# Altium integrated library TI Power Management Step-Down Regulator.IntLib: 531 symbols (part 17 of 32)
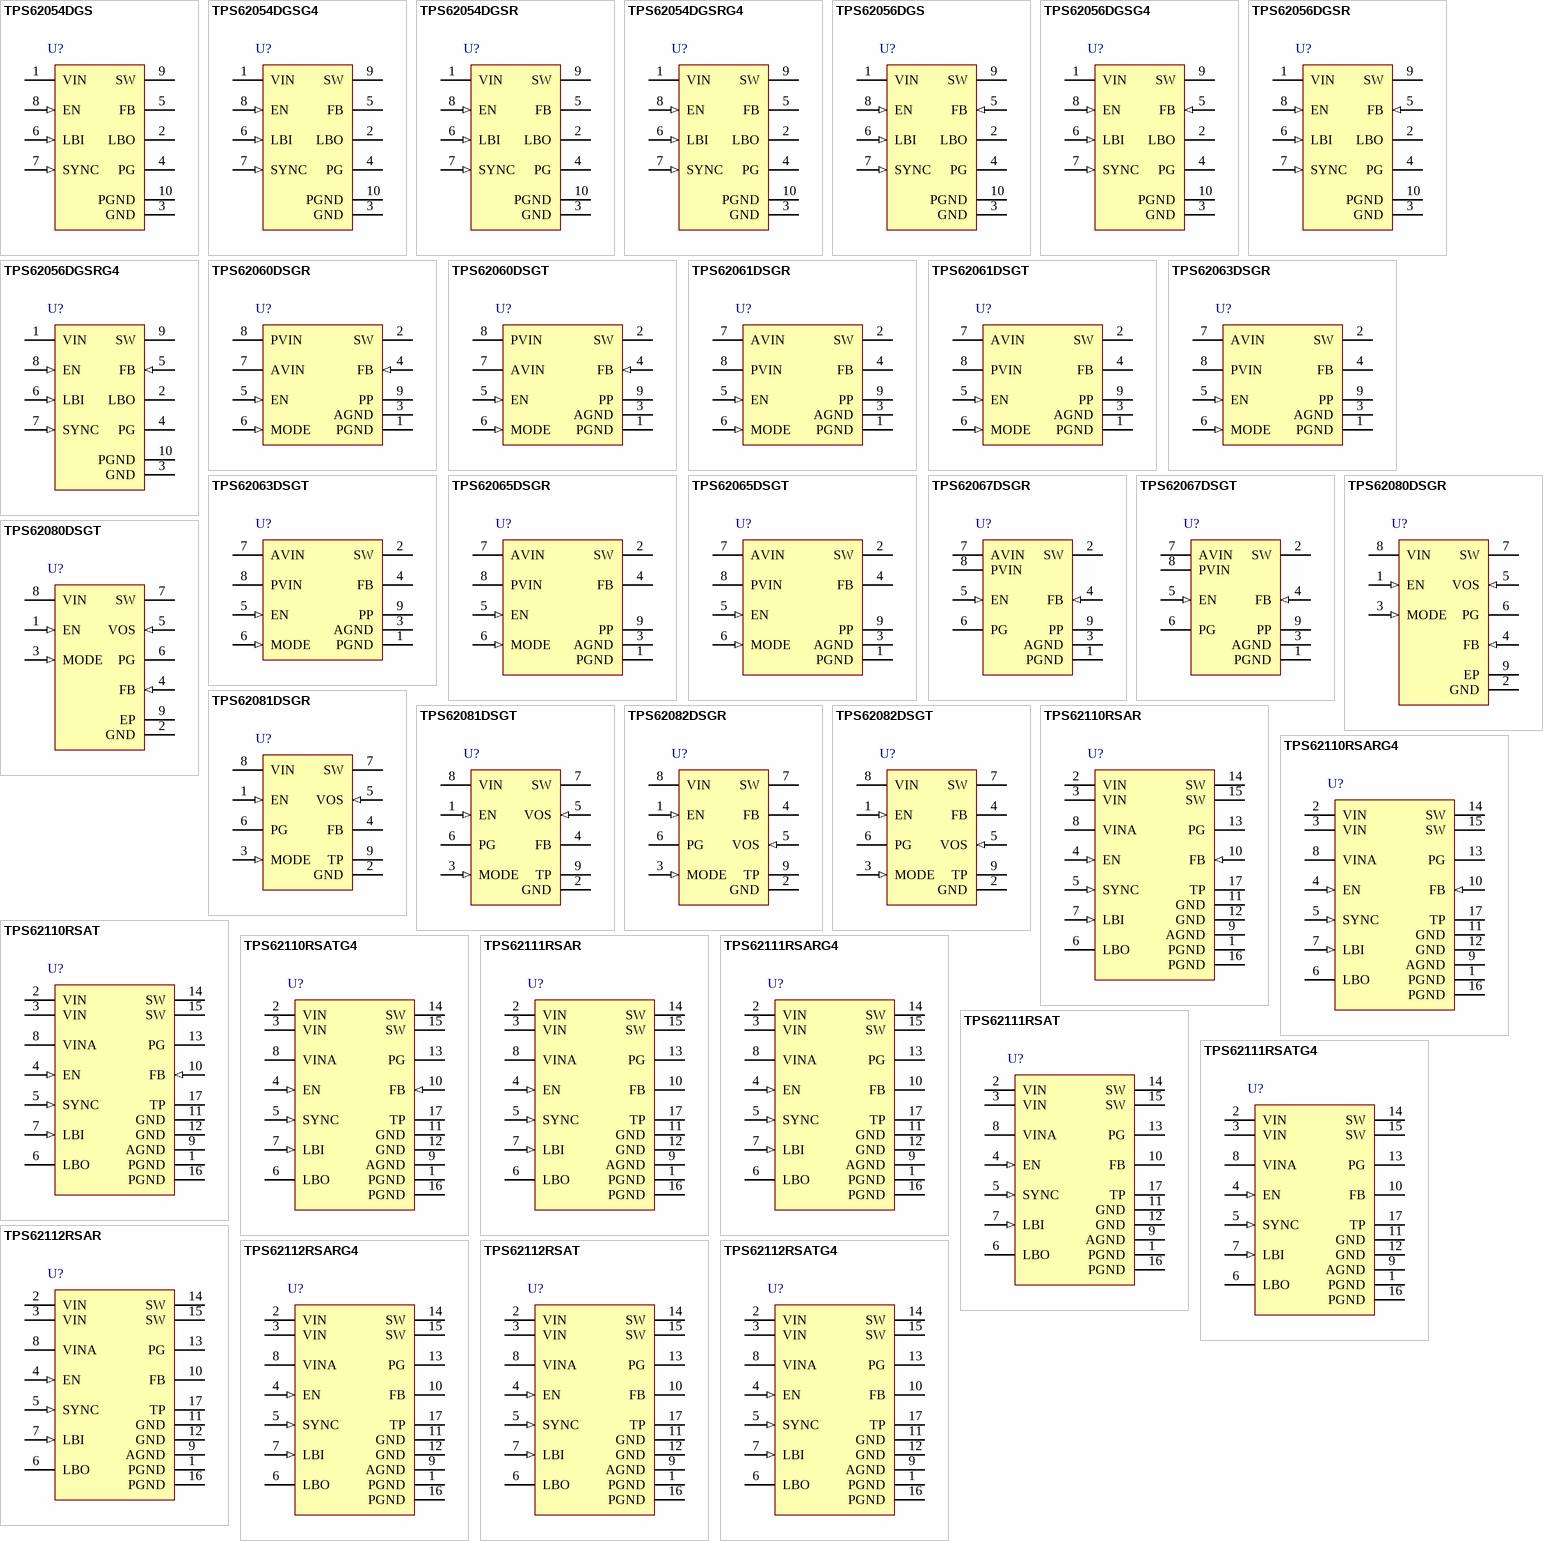
[diagram p34: symbols TPS62054DGS to TPS62112RSATG4]

## TPS62082DSGT
designator U?
Buck Step Down Regulator with 2.3 to 6 V Input and 3.3 V Output, -40 to 85 degC, 8-Pin WSON (DSG), Green (RoHS & no Sb/Br); PartNumber: TPS62082DSGT; Manufacturer: Texas Instruments; Duty Cycle(Max)(%): 100; Iout(Max)(A): 1.2; Iq(Typ)(mA): 0.006; Rating: Catalog; Regulated Outputs(#): 1; SubFamily: Step-Down Regulator; Switch Current Limit(Typ)(A): 2.8; Vin(Max)(V): 6; Vin(Min)(V): 2.3; Vout(Max)(V): 3.3; DatasheetVersion: SLVSAE8B; PackageVersion: revB, Oct-2010; PackageReference: DSG8-1600X900TP; PackageDescription: 8-Pin Plastic Small Outline No-Lead, 2 x 2 x 0.8 mm Body, 0.5 mm Pitch, Exposed Pad; Supplier 1: Digi-Key; Supplier Part Number 1: 296-29647-2-ND; Supplier 2: Digi-Key; Supplier Part Number 2: 296-29647-1-ND; Supplier 3: Digi-Key; Supplier Part Number 3: 296-29647-6-ND; Supplier 4: Farnell; Supplier Part Number 4: 2064227; Supplier 5: Newark; Supplier Part Number 5: 71T7162; Supplier 6: Newark; Supplier Part Number 6: 64T4243; Supplier 7: Mouser; Supplier Part Number 7: 595-TPS62082DSGT; Eco-Plan: Green (RoHS & no Sb/Br); Topology: Buck; Vout(Min)(V): 3.3; Mounting Technology: Surface Mount; Code_JEDEC: MO-229; ComponentLink1Description: Datasheet; ComponentLink1URL: http://www.ti.com/general/docs/lit/getliterature.tsp?genericPartNumber=TPS62082&fileType=pdf; ComponentLink2Description: URL Link1; ComponentLink2URL: Samples URL:http://www.ti.com/product/tps54611#samples
footprint DSG8-1600X900TP (SON, 8-Leads, Body 2x2mm, Pitch 0.5mm, Thermal Pad 1.6x0.9mm, TI Recommended)
pins: 1 EN (in) "Device Enable Logic Input. Logic HIGH enables the device, logic LOW disables the device and turns it into shutdown.", 2 GND (power) "Power and Signal Ground.", 3 MODE (in) "Snooze Mode Enable Logic Input. Logic HIGH enables the Snooze Mode, logic LOW disables the Snooze Mode", 4 FB "Feedback Pin for the internal control loop. Connect this pin to the external feedback divider for the adjustable output version. For the fixed output voltage versions this pin must be left floating or connected to GND.", 5 VOS (in) "Output Voltage Sense Pin for the internal control loop. Must be connected to output.", 6 PG (hiz) "Power Good open drain output. This pin is pulled to low if the output voltage is below regulation limits. Can be left floating if not used", 7 SW (power) "Switch Pin connected to the internal MOSFET switches and inductor terminal. Connect the inductor of the output filter here.", 8 VIN (power) "Power Supply Voltage Input.", 9 TP (power) "Connect it to GND."

## TPS62110RSAR
designator U?
Buck Adjustable Regulator with 3.1 to 17 V Input and 1.2 to 16 V Output, -40 to 85 degC, 16-Pin QFN (RSA), Green (RoHS & no Sb/Br); PartNumber: TPS62110RSAR; Manufacturer: Texas Instruments; Duty Cycle(Max)(%): 100; Iout(Max)(A): 1.5; Iq(Typ)(mA): 0.02; Rating: Catalog; Regulated Outputs(#): 1; SubFamily: Step-Down Regulator; Switch Current Limit(Typ)(A): 2.4; Synchronous Rectification: TRUE; Vin(Max)(V): 17; Vin(Min)(V): 3.1; Vout(Max)(V): 16; Vout(Min)(V): 1.2; DatasheetVersion: SLVS585A; PackageVersion: revD, Jun-2011; PackageReference: RSA16-2700X2700TP; PackageDescription: 16-Pin Plastic Quad Flatpack No-Lead 0.65 mm Pitch; Supplier 1: Digi-Key; Supplier Part Number 1: 296-24839-2-ND; Supplier 2: Digi-Key; Supplier Part Number 2: 296-24839-1-ND; Supplier 3: Digi-Key; Supplier Part Number 3: 296-24839-6-ND; Supplier 4: Newark; Supplier Part Number 4: 52K5943; Supplier 5: Mouser; Supplier Part Number 5: 595-TPS62110RSAR; Eco-Plan: Green (RoHS & no Sb/Br); Topology: Buck; Mounting Technology: Surface Mount; Code_JEDEC: MO-220; ComponentLink1Description: Datasheet; ComponentLink1URL: http://www.ti.com/general/docs/lit/getliterature.tsp?genericPartNumber=TPS62110&fileType=pdf; ComponentLink2Description: URL Link1; ComponentLink2URL: Samples URL:http://www.ti.com/product/tps62110#samples
footprint RSA16-2700X2700TP (QFN, 16-Leads, Body 4x4mm, Pitch 0.65mm, Thermal Pad 2.7x2.7mm, TI Recommended)
pins: 1 PGND (power) "Power ground. Connect all power grounds to this pin.", 2 VIN (power) "Supply voltage input (power stage).", 3 VIN (power) "Supply voltage input (power stage).", 4 EN (in) "Enable. A logic high enables the converter; logic low forces the device into shutdown mode reducing the supply current to less than 2 uA.", 5 SYNC (in) "Input for synchronization to external clock signal. Synchronizes the converter switching frequency to an external clock signal with CMOS level: SYNC = HIGH: Low-noise mode enabled, fixed frequency PWM operation is forced (See Datasheet)", 6 LBO (hiz) "Open-drain, low-battery output. This pin is pulled low if LBI is below its threshold.", 7 LBI (in) "Low-battery input.", 8 VINA (power) "Supply voltage input (support circuits).", 9 AGND (power) "Analog ground, connect to GND and PGND.", 10 FB (in) "Feedback pin for the fixed output voltage option. For the adjustable version, an external resistive divider is connected to this pin. The internal voltage divider is disabled for the adjustable version.", 11 GND (power) "Ground.", 12 GND (power) "Ground.", 13 PG (oc) "Power good comparator output. This is an open-drain output. A pullup resistor should be connected between PG and VOUT. The output goes active high when the output voltage is greater than 98.4% of the nominal value.", 14 SW (power) "Connect the inductor to this pin. This pin is the switch pin and connected to the drain of the internal power MOSFETS.", 15 SW (power) "Connect the inductor to this pin. This pin is the switch pin and connected to the drain of the internal power MOSFETS.", 16 PGND (power) "Power ground. Connect all power grounds to this pin.", 17 TP (power) "Connect to AGND."

## TPS62110RSARG4
designator U?
Buck Adjustable Regulator with 3.1 to 17 V Input and 1.2 to 16 V Output, -40 to 85 degC, 16-Pin QFN (RSA), Green (RoHS & no Sb/Br); PartNumber: TPS62110RSARG4; Manufacturer: Texas Instruments; Duty Cycle(Max)(%): 100; Iout(Max)(A): 1.5; Iq(Typ)(mA): 0.02; Rating: Catalog; Regulated Outputs(#): 1; SubFamily: Step-Down Regulator; Switch Current Limit(Typ)(A): 2.4; Synchronous Rectification: TRUE; Vin(Max)(V): 17; Vin(Min)(V): 3.1; Vout(Max)(V): 16; Vout(Min)(V): 1.2; DatasheetVersion: SLVS585A; PackageVersion: revD, Jun-2011; PackageReference: RSA16-2700X2700TP; PackageDescription: 16-Pin Plastic Quad Flatpack No-Lead 0.65 mm Pitch; Supplier 1: Digi-Key; Supplier Part Number 1: TPS62110RSARG4-ND; Supplier 2: Newark; Supplier Part Number 2: 58K6947; Supplier 3: Mouser; Supplier Part Number 3: 595-TPS62110RSARG4; Eco-Plan: Green (RoHS & no Sb/Br); Topology: Buck; Mounting Technology: Surface Mount; Code_JEDEC: MO-220; ComponentLink1Description: Datasheet; ComponentLink1URL: http://www.ti.com/general/docs/lit/getliterature.tsp?genericPartNumber=TPS62110&fileType=pdf; ComponentLink2Description: URL Link1; ComponentLink2URL: Samples URL:http://www.ti.com/product/tps62110#samples
footprint RSA16-2700X2700TP (QFN, 16-Leads, Body 4x4mm, Pitch 0.65mm, Thermal Pad 2.7x2.7mm, TI Recommended)
pins: 1 PGND (power) "Power ground. Connect all power grounds to this pin.", 2 VIN (power) "Supply voltage input (power stage).", 3 VIN (power) "Supply voltage input (power stage).", 4 EN (in) "Enable. A logic high enables the converter; logic low forces the device into shutdown mode reducing the supply current to less than 2 uA.", 5 SYNC (in) "Input for synchronization to external clock signal. Synchronizes the converter switching frequency to an external clock signal with CMOS level: SYNC = HIGH: Low-noise mode enabled, fixed frequency PWM operation is forced (See Datasheet)", 6 LBO (hiz) "Open-drain, low-battery output. This pin is pulled low if LBI is below its threshold.", 7 LBI (in) "Low-battery input.", 8 VINA (power) "Supply voltage input (support circuits).", 9 AGND (power) "Analog ground, connect to GND and PGND.", 10 FB (in) "Feedback pin for the fixed output voltage option. For the adjustable version, an external resistive divider is connected to this pin. The internal voltage divider is disabled for the adjustable version.", 11 GND (power) "Ground.", 12 GND (power) "Ground.", 13 PG (oc) "Power good comparator output. This is an open-drain output. A pullup resistor should be connected between PG and VOUT. The output goes active high when the output voltage is greater than 98.4% of the nominal value.", 14 SW (power) "Connect the inductor to this pin. This pin is the switch pin and connected to the drain of the internal power MOSFETS.", 15 SW (power) "Connect the inductor to this pin. This pin is the switch pin and connected to the drain of the internal power MOSFETS.", 16 PGND (power) "Power ground. Connect all power grounds to this pin.", 17 TP (power) "Connect to AGND."

## TPS62110RSAT
designator U?
Buck Adjustable Regulator with 3.1 to 17 V Input and 1.2 to 16 V Output, -40 to 85 degC, 16-Pin QFN (RSA), Green (RoHS & no Sb/Br); PartNumber: TPS62110RSAT; Manufacturer: Texas Instruments; Duty Cycle(Max)(%): 100; Iout(Max)(A): 1.5; Iq(Typ)(mA): 0.02; Rating: Catalog; Regulated Outputs(#): 1; SubFamily: Step-Down Regulator; Switch Current Limit(Typ)(A): 2.4; Synchronous Rectification: TRUE; Vin(Max)(V): 17; Vin(Min)(V): 3.1; Vout(Max)(V): 16; Vout(Min)(V): 1.2; DatasheetVersion: SLVS585A; PackageVersion: revD, Jun-2011; PackageReference: RSA16-2700X2700TP; PackageDescription: 16-Pin Plastic Quad Flatpack No-Lead 0.65 mm Pitch; Supplier 1: Digi-Key; Supplier Part Number 1: 296-18580-2-ND; Supplier 2: Digi-Key; Supplier Part Number 2: 296-18580-1-ND; Supplier 3: Digi-Key; Supplier Part Number 3: 296-18580-6-ND; Supplier 4: Farnell; Supplier Part Number 4: 1412558; Supplier 5: Newark; Supplier Part Number 5: 52K2744; Supplier 6: Mouser; Supplier Part Number 6: 595-TPS62110RSAT; Eco-Plan: Green (RoHS & no Sb/Br); Topology: Buck; Mounting Technology: Surface Mount; Code_JEDEC: MO-220; ComponentLink1Description: Datasheet; ComponentLink1URL: http://www.ti.com/general/docs/lit/getliterature.tsp?genericPartNumber=TPS62110&fileType=pdf; ComponentLink2Description: URL Link1; ComponentLink2URL: Samples URL:http://www.ti.com/product/tps62110#samples
footprint RSA16-2700X2700TP (QFN, 16-Leads, Body 4x4mm, Pitch 0.65mm, Thermal Pad 2.7x2.7mm, TI Recommended)
pins: 1 PGND (power) "Power ground. Connect all power grounds to this pin.", 2 VIN (power) "Supply voltage input (power stage).", 3 VIN (power) "Supply voltage input (power stage).", 4 EN (in) "Enable. A logic high enables the converter; logic low forces the device into shutdown mode reducing the supply current to less than 2 uA.", 5 SYNC (in) "Input for synchronization to external clock signal. Synchronizes the converter switching frequency to an external clock signal with CMOS level: SYNC = HIGH: Low-noise mode enabled, fixed frequency PWM operation is forced (See Datasheet)", 6 LBO (hiz) "Open-drain, low-battery output. This pin is pulled low if LBI is below its threshold.", 7 LBI (in) "Low-battery input.", 8 VINA (power) "Supply voltage input (support circuits).", 9 AGND (power) "Analog ground, connect to GND and PGND.", 10 FB (in) "Feedback pin for the fixed output voltage option. For the adjustable version, an external resistive divider is connected to this pin. The internal voltage divider is disabled for the adjustable version.", 11 GND (power) "Ground.", 12 GND (power) "Ground.", 13 PG (oc) "Power good comparator output. This is an open-drain output. A pullup resistor should be connected between PG and VOUT. The output goes active high when the output voltage is greater than 98.4% of the nominal value.", 14 SW (power) "Connect the inductor to this pin. This pin is the switch pin and connected to the drain of the internal power MOSFETS.", 15 SW (power) "Connect the inductor to this pin. This pin is the switch pin and connected to the drain of the internal power MOSFETS.", 16 PGND (power) "Power ground. Connect all power grounds to this pin.", 17 TP (power) "Connect to AGND."

## TPS62110RSATG4
designator U?
Buck Adjustable Regulator with 3.1 to 17 V Input and 1.2 to 16 V Output, -40 to 85 degC, 16-Pin QFN (RSA), Green (RoHS & no Sb/Br); PartNumber: TPS62110RSATG4; Manufacturer: Texas Instruments; Duty Cycle(Max)(%): 100; Iout(Max)(A): 1.5; Iq(Typ)(mA): 0.02; Rating: Catalog; Regulated Outputs(#): 1; SubFamily: Step-Down Regulator; Switch Current Limit(Typ)(A): 2.4; Synchronous Rectification: TRUE; Vin(Max)(V): 17; Vin(Min)(V): 3.1; Vout(Max)(V): 16; Vout(Min)(V): 1.2; DatasheetVersion: SLVS585A; PackageVersion: revD, Jun-2011; PackageReference: RSA16-2700X2700TP; PackageDescription: 16-Pin Plastic Quad Flatpack No-Lead 0.65 mm Pitch; Supplier 1: Digi-Key; Supplier Part Number 1: TPS62110RSATG4-ND; Supplier 2: Farnell; Supplier Part Number 2: 1180173; Supplier 3: Farnell; Supplier Part Number 3: 1180173RL; Supplier 4: Newark; Supplier Part Number 4: 26M4288; Supplier 5: Newark; Supplier Part Number 5: 61K1897; Supplier 6: Mouser; Supplier Part Number 6: 595-TPS62110RSATG4; Eco-Plan: Green (RoHS & no Sb/Br); Topology: Buck; Mounting Technology: Surface Mount; Code_JEDEC: MO-220; ComponentLink1Description: Datasheet; ComponentLink1URL: http://www.ti.com/general/docs/lit/getliterature.tsp?genericPartNumber=TPS62110&fileType=pdf; ComponentLink2Description: URL Link1; ComponentLink2URL: Samples URL:http://www.ti.com/product/tps54611#samples
footprint RSA16-2700X2700TP (QFN, 16-Leads, Body 4x4mm, Pitch 0.65mm, Thermal Pad 2.7x2.7mm, TI Recommended)
pins: 1 PGND (power) "Power ground. Connect all power grounds to this pin.", 2 VIN (power) "Supply voltage input (power stage).", 3 VIN (power) "Supply voltage input (power stage).", 4 EN (in) "Enable. A logic high enables the converter; logic low forces the device into shutdown mode reducing the supply current to less than 2 uA.", 5 SYNC (in) "Input for synchronization to external clock signal. Synchronizes the converter switching frequency to an external clock signal with CMOS level: SYNC = HIGH: Low-noise mode enabled, fixed frequency PWM operation is forced (See Datasheet)", 6 LBO (hiz) "Open-drain, low-battery output. This pin is pulled low if LBI is below its threshold.", 7 LBI (in) "Low-battery input.", 8 VINA (power) "Supply voltage input (support circuits).", 9 AGND (power) "Analog ground, connect to GND and PGND.", 10 FB (in) "Feedback pin for the fixed output voltage option. For the adjustable version, an external resistive divider is connected to this pin. The internal voltage divider is disabled for the adjustable version.", 11 GND (power) "Ground.", 12 GND (power) "Ground.", 13 PG (oc) "Power good comparator output. This is an open-drain output. A pullup resistor should be connected between PG and VOUT. The output goes active high when the output voltage is greater than 98.4% of the nominal value.", 14 SW (power) "Connect the inductor to this pin. This pin is the switch pin and connected to the drain of the internal power MOSFETS.", 15 SW (power) "Connect the inductor to this pin. This pin is the switch pin and connected to the drain of the internal power MOSFETS.", 16 PGND (power) "Power ground. Connect all power grounds to this pin.", 17 TP (power) "Connect to AGND."

## TPS62111RSAR
designator U?
Buck Step Down Regulator with 3.1 to 17 V Input and 3.3 V Output, -40 to 85 degC, 16-Pin QFN (RSA), Green (RoHS & no Sb/Br); PartNumber: TPS62111RSAR; Manufacturer: Texas Instruments; Duty Cycle(Max)(%): 100; Iout(Max)(A): 1.5; Iq(Typ)(mA): 0.02; Preset Vout(V): 3.3; Rating: Catalog; Regulated Outputs(#): 1; SubFamily: Step-Down Regulator; Switch Current Limit(Typ)(A): 2.4; Synchronous Rectification: TRUE; Vin(Max)(V): 17; Vin(Min)(V): 3.1; DatasheetVersion: SLVS585A; PackageVersion: revD, Jun-2011; PackageReference: RSA16-2700X2700TP; PackageDescription: 16-Pin Plastic Quad Flatpack No-Lead 0.65 mm Pitch; Supplier 1: Digi-Key; Supplier Part Number 1: TPS62111RSAR-ND; Supplier 2: Newark; Supplier Part Number 2: 54K1738; Supplier 3: Mouser; Supplier Part Number 3: 595-TPS62111RSAR; Eco-Plan: Green (RoHS & no Sb/Br); Topology: Buck; Vout(Max)(V): 3.3; Vout(Min)(V): 3.3; Mounting Technology: Surface Mount; Code_JEDEC: MO-220; ComponentLink1Description: Datasheet; ComponentLink1URL: http://www.ti.com/general/docs/lit/getliterature.tsp?genericPartNumber=TPS62111&fileType=pdf; ComponentLink2Description: URL Link1; ComponentLink2URL: Samples URL:http://www.ti.com/product/tps62111#samples
footprint RSA16-2700X2700TP (QFN, 16-Leads, Body 4x4mm, Pitch 0.65mm, Thermal Pad 2.7x2.7mm, TI Recommended)
pins: 1 PGND (power) "Power ground. Connect all power grounds to this pin.", 2 VIN (power) "Supply voltage input (power stage).", 3 VIN (power) "Supply voltage input (power stage).", 4 EN (in) "Enable. A logic high enables the converter; logic low forces the device into shutdown mode reducing the supply current to less than 2 µ A.", 5 SYNC (in) "Input for synchronization to external clock signal. Synchronizes the converter switching frequency to anexternal clock signal with CMOS level: SYNC = HIGH: Low-noise mode enabled, fixed frequency PWM operation is forced. (See Datasheet)", 6 LBO (hiz) "Open-drain, low-battery output. This pin is pulled low if LBI is below its threshold.", 7 LBI (in) "Low-battery input.", 8 VINA (power) "Supply voltage input (support circuits).", 9 AGND (power) "Analog ground, connect to GND and PGND.", 10 FB "Feedback pin for the fixed output voltage option. For the adjustable version, an external resistive divider is connected to this pin. The internal voltage divider is disabled for the adjustable version.", 11 GND (power) "Ground.", 12 GND (power) "Ground.", 13 PG (oc) "Power good comparator output. This is an open-drain output. A pullup resistor should be connected between PG and VOUT. The output goes active high when the output voltage is greater than 98.4% of the nominal value.", 14 SW (power) "Connect the inductor to this pin. This pin is the switch pin and connected to the drain of the internal power MOSFETS.", 15 SW (power) "Connect the inductor to this pin. This pin is the switch pin and connected to the drain of the internal power MOSFETS.", 16 PGND (power) "Power ground. Connect all power grounds to this pin.", 17 TP (power) "Connect to AGND."

## TPS62111RSARG4
designator U?
Buck Step Down Regulator with 3.1 to 17 V Input and 3.3 V Output, -40 to 85 degC, 16-Pin QFN (RSA), Green (RoHS & no Sb/Br); PartNumber: TPS62111RSARG4; Manufacturer: Texas Instruments; Duty Cycle(Max)(%): 100; Iout(Max)(A): 1.5; Iq(Typ)(mA): 0.02; Preset Vout(V): 3.3; Rating: Catalog; Regulated Outputs(#): 1; SubFamily: Step-Down Regulator; Switch Current Limit(Typ)(A): 2.4; Synchronous Rectification: TRUE; Vin(Max)(V): 17; Vin(Min)(V): 3.1; DatasheetVersion: SLVS585A; PackageVersion: revD, Jun-2011; PackageReference: RSA16-2700X2700TP; PackageDescription: 16-Pin Plastic Quad Flatpack No-Lead 0.65 mm Pitch; Supplier 1: Digi-Key; Supplier Part Number 1: TPS62111RSARG4-ND; Supplier 2: Newark; Supplier Part Number 2: 58K6948; Supplier 3: Mouser; Supplier Part Number 3: 595-TPS62111RSARG4; Eco-Plan: Green (RoHS & no Sb/Br); Topology: Buck; Vout(Max)(V): 3.3; Vout(Min)(V): 3.3; Mounting Technology: Surface Mount; Code_JEDEC: MO-220; ComponentLink1Description: Datasheet; ComponentLink1URL: http://www.ti.com/general/docs/lit/getliterature.tsp?genericPartNumber=TPS62111&fileType=pdf; ComponentLink2Description: URL Link1; ComponentLink2URL: Samples URL:http://www.ti.com/product/tps62111#samples
footprint RSA16-2700X2700TP (QFN, 16-Leads, Body 4x4mm, Pitch 0.65mm, Thermal Pad 2.7x2.7mm, TI Recommended)
pins: 1 PGND (power) "Power ground. Connect all power grounds to this pin.", 2 VIN (power) "Supply voltage input (power stage).", 3 VIN (power) "Supply voltage input (power stage).", 4 EN (in) "Enable. A logic high enables the converter; logic low forces the device into shutdown mode reducing the supply current to less than 2 µ A.", 5 SYNC (in) "Input for synchronization to external clock signal. Synchronizes the converter switching frequency to anexternal clock signal with CMOS level: SYNC = HIGH: Low-noise mode enabled, fixed frequency PWM operation is forced. (See Datasheet)", 6 LBO (hiz) "Open-drain, low-battery output. This pin is pulled low if LBI is below its threshold.", 7 LBI (in) "Low-battery input.", 8 VINA (power) "Supply voltage input (support circuits).", 9 AGND (power) "Analog ground, connect to GND and PGND.", 10 FB "Feedback pin for the fixed output voltage option. For the adjustable version, an external resistive divider is connected to this pin. The internal voltage divider is disabled for the adjustable version.", 11 GND (power) "Ground.", 12 GND (power) "Ground.", 13 PG (oc) "Power good comparator output. This is an open-drain output. A pullup resistor should be connected between PG and VOUT. The output goes active high when the output voltage is greater than 98.4% of the nominal value.", 14 SW (power) "Connect the inductor to this pin. This pin is the switch pin and connected to the drain of the internal power MOSFETS.", 15 SW (power) "Connect the inductor to this pin. This pin is the switch pin and connected to the drain of the internal power MOSFETS.", 16 PGND (power) "Power ground. Connect all power grounds to this pin.", 17 TP (power) "Connect to AGND."

## TPS62111RSAT
designator U?
Buck Step Down Regulator with 3.1 to1 7 V Input and 3.3 V Output, -40 to 85 degC, 16-Pin QFN (RSA), Green (RoHS & no Sb/Br); PartNumber: TPS62111RSAT; Manufacturer: Texas Instruments; Duty Cycle(Max)(%): 100; Iout(Max)(A): 1.5; Iq(Typ)(mA): 0.02; Preset Vout(V): 3.3; Rating: Catalog; Regulated Outputs(#): 1; SubFamily: Step-Down Regulator; Switch Current Limit(Typ)(A): 2.4; Synchronous Rectification: TRUE; Vin(Max)(V): 17; Vin(Min)(V): 3.1; DatasheetVersion: SLVS585A; PackageVersion: revD, Jun-2011; PackageReference: RSA16-2700X2700TP; PackageDescription: 16-Pin Plastic Quad Flatpack No-Lead 0.65 mm Pitch; Supplier 1: Digi-Key; Supplier Part Number 1: 296-20670-2-ND; Supplier 2: Digi-Key; Supplier Part Number 2: 296-20670-1-ND; Supplier 3: Digi-Key; Supplier Part Number 3: 296-20670-6-ND; Supplier 4: Newark; Supplier Part Number 4: 54K1739; Supplier 5: Mouser; Supplier Part Number 5: 595-TPS62111RSAT; Eco-Plan: Green (RoHS & no Sb/Br); Topology: Buck; Vout(Max)(V): 3.3; Vout(Min)(V): 3.3; Mounting Technology: Surface Mount; Code_JEDEC: MO-220; ComponentLink1Description: Datasheet; ComponentLink1URL: http://www.ti.com/general/docs/lit/getliterature.tsp?genericPartNumber=TPS62111&fileType=pdf; ComponentLink2Description: URL Link1; ComponentLink2URL: Samples URL:http://www.ti.com/product/tps62111#samples
footprint RSA16-2700X2700TP (QFN, 16-Leads, Body 4x4mm, Pitch 0.65mm, Thermal Pad 2.7x2.7mm, TI Recommended)
pins: 1 PGND (power) "Power ground. Connect all power grounds to this pin.", 2 VIN (power) "Supply voltage input (power stage).", 3 VIN (power) "Supply voltage input (power stage).", 4 EN (in) "Enable. A logic high enables the converter; logic low forces the device into shutdown mode reducing the supply current to less than 2 µ A.", 5 SYNC (in) "Input for synchronization to external clock signal. Synchronizes the converter switching frequency to anexternal clock signal with CMOS level: SYNC = HIGH: Low-noise mode enabled, fixed frequency PWM operation is forced. (See Datasheet)", 6 LBO (hiz) "Open-drain, low-battery output. This pin is pulled low if LBI is below its threshold.", 7 LBI (in) "Low-battery input.", 8 VINA (power) "Supply voltage input (support circuits).", 9 AGND (power) "Analog ground, connect to GND and PGND.", 10 FB "Feedback pin for the fixed output voltage option. For the adjustable version, an external resistive divider is connected to this pin. The internal voltage divider is disabled for the adjustable version.", 11 GND (power) "Ground.", 12 GND (power) "Ground.", 13 PG (oc) "Power good comparator output. This is an open-drain output. A pullup resistor should be connected between PG and VOUT. The output goes active high when the output voltage is greater than 98.4% of the nominal value.", 14 SW (power) "Connect the inductor to this pin. This pin is the switch pin and connected to the drain of the internal power MOSFETS.", 15 SW (power) "Connect the inductor to this pin. This pin is the switch pin and connected to the drain of the internal power MOSFETS.", 16 PGND (power) "Power ground. Connect all power grounds to this pin.", 17 TP (power) "Connect to AGND."

## TPS62111RSATG4
designator U?
Buck Step Down Regulator with 3.1 to 17 V Input and 3.3 V Output, -40 to 85 degC, 16-Pin QFN (RSA), Green (RoHS & no Sb/Br); PartNumber: TPS62111RSATG4; Manufacturer: Texas Instruments; Duty Cycle(Max)(%): 100; Iout(Max)(A): 1.5; Iq(Typ)(mA): 0.02; Preset Vout(V): 3.3; Rating: Catalog; Regulated Outputs(#): 1; SubFamily: Step-Down Regulator; Switch Current Limit(Typ)(A): 2.4; Synchronous Rectification: TRUE; Vin(Max)(V): 17; Vin(Min)(V): 3.1; DatasheetVersion: SLVS585A; PackageVersion: revD, Jun-2011; PackageReference: RSA16-2700X2700TP; PackageDescription: 16-Pin Plastic Quad Flatpack No-Lead 0.65 mm Pitch; Supplier 1: Digi-Key; Supplier Part Number 1: TPS62111RSATG4-ND; Supplier 2: Newark; Supplier Part Number 2: 58K6949; Supplier 3: Mouser; Supplier Part Number 3: 595-TPS62111RSATG4; Eco-Plan: Green (RoHS & no Sb/Br); Topology: Buck; Vout(Max)(V): 3.3; Vout(Min)(V): 3.3; Mounting Technology: Surface Mount; Code_JEDEC: MO-220; ComponentLink1Description: Datasheet; ComponentLink1URL: http://www.ti.com/general/docs/lit/getliterature.tsp?genericPartNumber=TPS62111&fileType=pdf; ComponentLink2Description: URL Link1; ComponentLink2URL: Samples URL:http://www.ti.com/product/tps54611#samples
footprint RSA16-2700X2700TP (QFN, 16-Leads, Body 4x4mm, Pitch 0.65mm, Thermal Pad 2.7x2.7mm, TI Recommended)
pins: 1 PGND (power) "Power ground. Connect all power grounds to this pin.", 2 VIN (power) "Supply voltage input (power stage).", 3 VIN (power) "Supply voltage input (power stage).", 4 EN (in) "Enable. A logic high enables the converter; logic low forces the device into shutdown mode reducing the supply current to less than 2 µ A.", 5 SYNC (in) "Input for synchronization to external clock signal. Synchronizes the converter switching frequency to anexternal clock signal with CMOS level: SYNC = HIGH: Low-noise mode enabled, fixed frequency PWM operation is forced. (See Datasheet)", 6 LBO (hiz) "Open-drain, low-battery output. This pin is pulled low if LBI is below its threshold.", 7 LBI (in) "Low-battery input.", 8 VINA (power) "Supply voltage input (support circuits).", 9 AGND (power) "Analog ground, connect to GND and PGND.", 10 FB "Feedback pin for the fixed output voltage option. For the adjustable version, an external resistive divider is connected to this pin. The internal voltage divider is disabled for the adjustable version.", 11 GND (power) "Ground.", 12 GND (power) "Ground.", 13 PG (oc) "Power good comparator output. This is an open-drain output. A pullup resistor should be connected between PG and VOUT. The output goes active high when the output voltage is greater than 98.4% of the nominal value.", 14 SW (power) "Connect the inductor to this pin. This pin is the switch pin and connected to the drain of the internal power MOSFETS.", 15 SW (power) "Connect the inductor to this pin. This pin is the switch pin and connected to the drain of the internal power MOSFETS.", 16 PGND (power) "Power ground. Connect all power grounds to this pin.", 17 TP (power) "Connect to AGND."

## TPS62112RSAR
designator U?
Buck Step Down Regulator with 3.1 to 17 V Input and 5 V Output, -40 to 85 degC, 16-Pin QFN (RSA), Green (RoHS & no Sb/Br); PartNumber: TPS62112RSAR; Manufacturer: Texas Instruments; Duty Cycle(Max)(%): 100; Iout(Max)(A): 1.5; Iq(Typ)(mA): 0.02; Preset Vout(V): 5; Rating: Catalog; Regulated Outputs(#): 1; SubFamily: Step-Down Regulator; Switch Current Limit(Typ)(A): 2.4; Synchronous Rectification: TRUE; Vin(Max)(V): 17; Vin(Min)(V): 3.1; DatasheetVersion: SLVS585A; PackageVersion: revD, Jun-2011; PackageReference: RSA16-2700X2700TP; PackageDescription: 16-Pin Plastic Quad Flatpack No-Lead 0.65 mm Pitch; Supplier 1: Digi-Key; Supplier Part Number 1: TPS62112RSAR-ND; Supplier 2: Newark; Supplier Part Number 2: 54K1740; Supplier 3: Mouser; Supplier Part Number 3: 595-TPS62112RSAR; Eco-Plan: Green (RoHS & no Sb/Br); Topology: Buck; Vout(Max)(V): 5; Vout(Min)(V): 5; Mounting Technology: Surface Mount; Code_JEDEC: MO-220; ComponentLink1Description: Datasheet; ComponentLink1URL: http://www.ti.com/general/docs/lit/getliterature.tsp?genericPartNumber=TPS62112&fileType=pdf; ComponentLink2Description: URL Link1; ComponentLink2URL: Samples URL:http://www.ti.com/product/tps62112#samples
footprint RSA16-2700X2700TP (QFN, 16-Leads, Body 4x4mm, Pitch 0.65mm, Thermal Pad 2.7x2.7mm, TI Recommended)
pins: 1 PGND (power) "Power ground. Connect all power grounds to this pin.", 2 VIN (power) "Supply voltage input (power stage)", 3 VIN (power) "Supply voltage input (power stage)", 4 EN (in) "Enable. A logic high enables the converter; logic low forces the device into shutdown mode reducing the supply current to less than 2 uA.", 5 SYNC (in) "Input for synchronization to external clock signal. Synchronizes the converter switching frequency to an external clock signal with CMOS level: SYNC = HIGH: Low-noise mode enabled, fixed frequency PWM operation is forced (See Datasheet)", 6 LBO (hiz) "Open-drain, low-battery output. This pin is pulled low if LBI is below its threshold.", 7 LBI (in) "Low-battery input", 8 VINA (power) "Supply voltage input (support circuits)", 9 AGND (power) "Analog ground, connect to GND and PGND", 10 FB "Feedback pin for the fixed output voltage option. For the adjustable version, an external resistive divider is connected to this pin. The internal voltage divider is disabled for the adjustable version.", 11 GND (power) "Ground", 12 GND (power) "Ground", 13 PG (oc) "Power good comparator output. This is an open-drain output. A pullup resistor should be connected between PG and VOUT. The output goes active high when the output voltage is greater than 98.4% of the nominal value.", 14 SW (power) "Connect the inductor to this pin. This pin is the switch pin and connected to the drain of the internal power MOSFETS.", 15 SW (power) "Connect the inductor to this pin. This pin is the switch pin and connected to the drain of the internal power MOSFETS.", 16 PGND (power) "Power ground. Connect all power grounds to this pin.", 17 TP (power) "Connect to AGND"

## TPS62112RSARG4
designator U?
Buck Step Down Regulator with 3.1 to 17 V Input and 5 V Output, -40 to 85 degC, 16-Pin QFN (RSA), Green (RoHS & no Sb/Br); PartNumber: TPS62112RSARG4; Manufacturer: Texas Instruments; Duty Cycle(Max)(%): 100; Iout(Max)(A): 1.5; Iq(Typ)(mA): 0.02; Preset Vout(V): 5; Rating: Catalog; Regulated Outputs(#): 1; SubFamily: Step-Down Regulator; Switch Current Limit(Typ)(A): 2.4; Synchronous Rectification: TRUE; Vin(Max)(V): 17; Vin(Min)(V): 3.1; DatasheetVersion: SLVS585A; PackageVersion: revD, Jun-2011; PackageReference: RSA16-2700X2700TP; PackageDescription: 16-Pin Plastic Quad Flatpack No-Lead 0.65 mm Pitch; Supplier 1: Digi-Key; Supplier Part Number 1: TPS62112RSARG4-ND; Supplier 2: Newark; Supplier Part Number 2: 58K6950; Supplier 3: Mouser; Supplier Part Number 3: 595-TPS62112RSARG4; Eco-Plan: Green (RoHS & no Sb/Br); Topology: Buck; Vout(Max)(V): 5; Vout(Min)(V): 5; Mounting Technology: Surface Mount; Code_JEDEC: MO-220; ComponentLink1Description: Datasheet; ComponentLink1URL: http://www.ti.com/general/docs/lit/getliterature.tsp?genericPartNumber=TPS62112&fileType=pdf; ComponentLink2Description: URL Link1; ComponentLink2URL: Samples URL:http://www.ti.com/product/tps62112#samples
footprint RSA16-2700X2700TP (QFN, 16-Leads, Body 4x4mm, Pitch 0.65mm, Thermal Pad 2.7x2.7mm, TI Recommended)
pins: 1 PGND (power) "Power ground. Connect all power grounds to this pin.", 2 VIN (power) "Supply voltage input (power stage)", 3 VIN (power) "Supply voltage input (power stage)", 4 EN (in) "Enable. A logic high enables the converter; logic low forces the device into shutdown mode reducing the supply current to less than 2 uA.", 5 SYNC (in) "Input for synchronization to external clock signal. Synchronizes the converter switching frequency to an external clock signal with CMOS level: SYNC = HIGH: Low-noise mode enabled, fixed frequency PWM operation is forced (See Datasheet)", 6 LBO (hiz) "Open-drain, low-battery output. This pin is pulled low if LBI is below its threshold.", 7 LBI (in) "Low-battery input", 8 VINA (power) "Supply voltage input (support circuits)", 9 AGND (power) "Analog ground, connect to GND and PGND", 10 FB "Feedback pin for the fixed output voltage option. For the adjustable version, an external resistive divider is connected to this pin. The internal voltage divider is disabled for the adjustable version.", 11 GND (power) "Ground", 12 GND (power) "Ground", 13 PG (oc) "Power good comparator output. This is an open-drain output. A pullup resistor should be connected between PG and VOUT. The output goes active high when the output voltage is greater than 98.4% of the nominal value.", 14 SW (power) "Connect the inductor to this pin. This pin is the switch pin and connected to the drain of the internal power MOSFETS.", 15 SW (power) "Connect the inductor to this pin. This pin is the switch pin and connected to the drain of the internal power MOSFETS.", 16 PGND (power) "Power ground. Connect all power grounds to this pin.", 17 TP (power) "Connect to AGND"

## TPS62112RSAT
designator U?
Buck Step Down Regulator with 3.1 to 17 V Input and 5 V Output, -40 to 85 degC, 16-Pin QFN (RSA), Green (RoHS & no Sb/Br); PartNumber: TPS62112RSAT; Manufacturer: Texas Instruments; Duty Cycle(Max)(%): 100; Iout(Max)(A): 1.5; Iq(Typ)(mA): 0.02; Preset Vout(V): 5; Rating: Catalog; Regulated Outputs(#): 1; SubFamily: Step-Down Regulator; Switch Current Limit(Typ)(A): 2.4; Synchronous Rectification: TRUE; Vin(Max)(V): 17; Vin(Min)(V): 3.1; DatasheetVersion: SLVS585A; PackageVersion: revD, Jun-2011; PackageReference: RSA16-2700X2700TP; PackageDescription: 16-Pin Plastic Quad Flatpack No-Lead 0.65 mm Pitch; Supplier 1: Digi-Key; Supplier Part Number 1: 296-19717-2-ND; Supplier 2: Digi-Key; Supplier Part Number 2: 296-19717-1-ND; Supplier 3: Digi-Key; Supplier Part Number 3: 296-19717-6-ND; Supplier 4: Newark; Supplier Part Number 4: 54K1741; Supplier 5: Mouser; Supplier Part Number 5: 595-TPS62112RSAT; Eco-Plan: Green (RoHS & no Sb/Br); Topology: Buck; Vout(Max)(V): 5; Vout(Min)(V): 5; Mounting Technology: Surface Mount; Code_JEDEC: MO-220; ComponentLink1Description: Datasheet; ComponentLink1URL: http://www.ti.com/general/docs/lit/getliterature.tsp?genericPartNumber=TPS62112&fileType=pdf; ComponentLink2Description: URL Link1; ComponentLink2URL: Samples URL:http://www.ti.com/product/tps62112#samples
footprint RSA16-2700X2700TP (QFN, 16-Leads, Body 4x4mm, Pitch 0.65mm, Thermal Pad 2.7x2.7mm, TI Recommended)
pins: 1 PGND (power) "Power ground. Connect all power grounds to this pin.", 2 VIN (power) "Supply voltage input (power stage)", 3 VIN (power) "Supply voltage input (power stage)", 4 EN (in) "Enable. A logic high enables the converter; logic low forces the device into shutdown mode reducing the supply current to less than 2 uA.", 5 SYNC (in) "Input for synchronization to external clock signal. Synchronizes the converter switching frequency to an external clock signal with CMOS level: SYNC = HIGH: Low-noise mode enabled, fixed frequency PWM operation is forced (See Datasheet)", 6 LBO (hiz) "Open-drain, low-battery output. This pin is pulled low if LBI is below its threshold.", 7 LBI (in) "Low-battery input", 8 VINA (power) "Supply voltage input (support circuits)", 9 AGND (power) "Analog ground, connect to GND and PGND", 10 FB "Feedback pin for the fixed output voltage option. For the adjustable version, an external resistive divider is connected to this pin. The internal voltage divider is disabled for the adjustable version.", 11 GND (power) "Ground", 12 GND (power) "Ground", 13 PG (oc) "Power good comparator output. This is an open-drain output. A pullup resistor should be connected between PG and VOUT. The output goes active high when the output voltage is greater than 98.4% of the nominal value.", 14 SW (power) "Connect the inductor to this pin. This pin is the switch pin and connected to the drain of the internal power MOSFETS.", 15 SW (power) "Connect the inductor to this pin. This pin is the switch pin and connected to the drain of the internal power MOSFETS.", 16 PGND (power) "Power ground. Connect all power grounds to this pin.", 17 TP (power) "Connect to AGND"

## TPS62112RSATG4
designator U?
Buck Step Down Regulator with 3.1 to 17 V Input and 5 V Output, -40 to 85 degC, 16-Pin QFN (RSA), Green (RoHS & no Sb/Br); PartNumber: TPS62112RSATG4; Manufacturer: Texas Instruments; Duty Cycle(Max)(%): 100; Iout(Max)(A): 1.5; Iq(Typ)(mA): 0.02; Preset Vout(V): 5; Rating: Catalog; Regulated Outputs(#): 1; SubFamily: Step-Down Regulator; Switch Current Limit(Typ)(A): 2.4; Synchronous Rectification: TRUE; Vin(Max)(V): 17; Vin(Min)(V): 3.1; DatasheetVersion: SLVS585A; PackageVersion: revD, Jun-2011; PackageReference: RSA16-2700X2700TP; PackageDescription: 16-Pin Plastic Quad Flatpack No-Lead 0.65 mm Pitch; Supplier 1: Digi-Key; Supplier Part Number 1: TPS62112RSATG4-ND; Supplier 2: Newark; Supplier Part Number 2: 58K6951; Supplier 3: Mouser; Supplier Part Number 3: 595-TPS62112RSATG4; Eco-Plan: Green (RoHS & no Sb/Br); Topology: Buck; Vout(Max)(V): 5; Vout(Min)(V): 5; Mounting Technology: Surface Mount; Code_JEDEC: MO-220; ComponentLink1Description: Datasheet; ComponentLink1URL: http://www.ti.com/general/docs/lit/getliterature.tsp?genericPartNumber=TPS62112&fileType=pdf; ComponentLink2Description: URL Link1; ComponentLink2URL: Samples URL:http://www.ti.com/product/tps62112#samples
footprint RSA16-2700X2700TP (QFN, 16-Leads, Body 4x4mm, Pitch 0.65mm, Thermal Pad 2.7x2.7mm, TI Recommended)
pins: 1 PGND (power) "Power ground. Connect all power grounds to this pin.", 2 VIN (power) "Supply voltage input (power stage)", 3 VIN (power) "Supply voltage input (power stage)", 4 EN (in) "Enable. A logic high enables the converter; logic low forces the device into shutdown mode reducing the supply current to less than 2 uA.", 5 SYNC (in) "Input for synchronization to external clock signal. Synchronizes the converter switching frequency to an external clock signal with CMOS level: SYNC = HIGH: Low-noise mode enabled, fixed frequency PWM operation is forced (See Datasheet)", 6 LBO (hiz) "Open-drain, low-battery output. This pin is pulled low if LBI is below its threshold.", 7 LBI (in) "Low-battery input", 8 VINA (power) "Supply voltage input (support circuits)", 9 AGND (power) "Analog ground, connect to GND and PGND", 10 FB "Feedback pin for the fixed output voltage option. For the adjustable version, an external resistive divider is connected to this pin. The internal voltage divider is disabled for the adjustable version.", 11 GND (power) "Ground", 12 GND (power) "Ground", 13 PG (oc) "Power good comparator output. This is an open-drain output. A pullup resistor should be connected between PG and VOUT. The output goes active high when the output voltage is greater than 98.4% of the nominal value.", 14 SW (power) "Connect the inductor to this pin. This pin is the switch pin and connected to the drain of the internal power MOSFETS.", 15 SW (power) "Connect the inductor to this pin. This pin is the switch pin and connected to the drain of the internal power MOSFETS.", 16 PGND (power) "Power ground. Connect all power grounds to this pin.", 17 TP (power) "Connect to AGND"

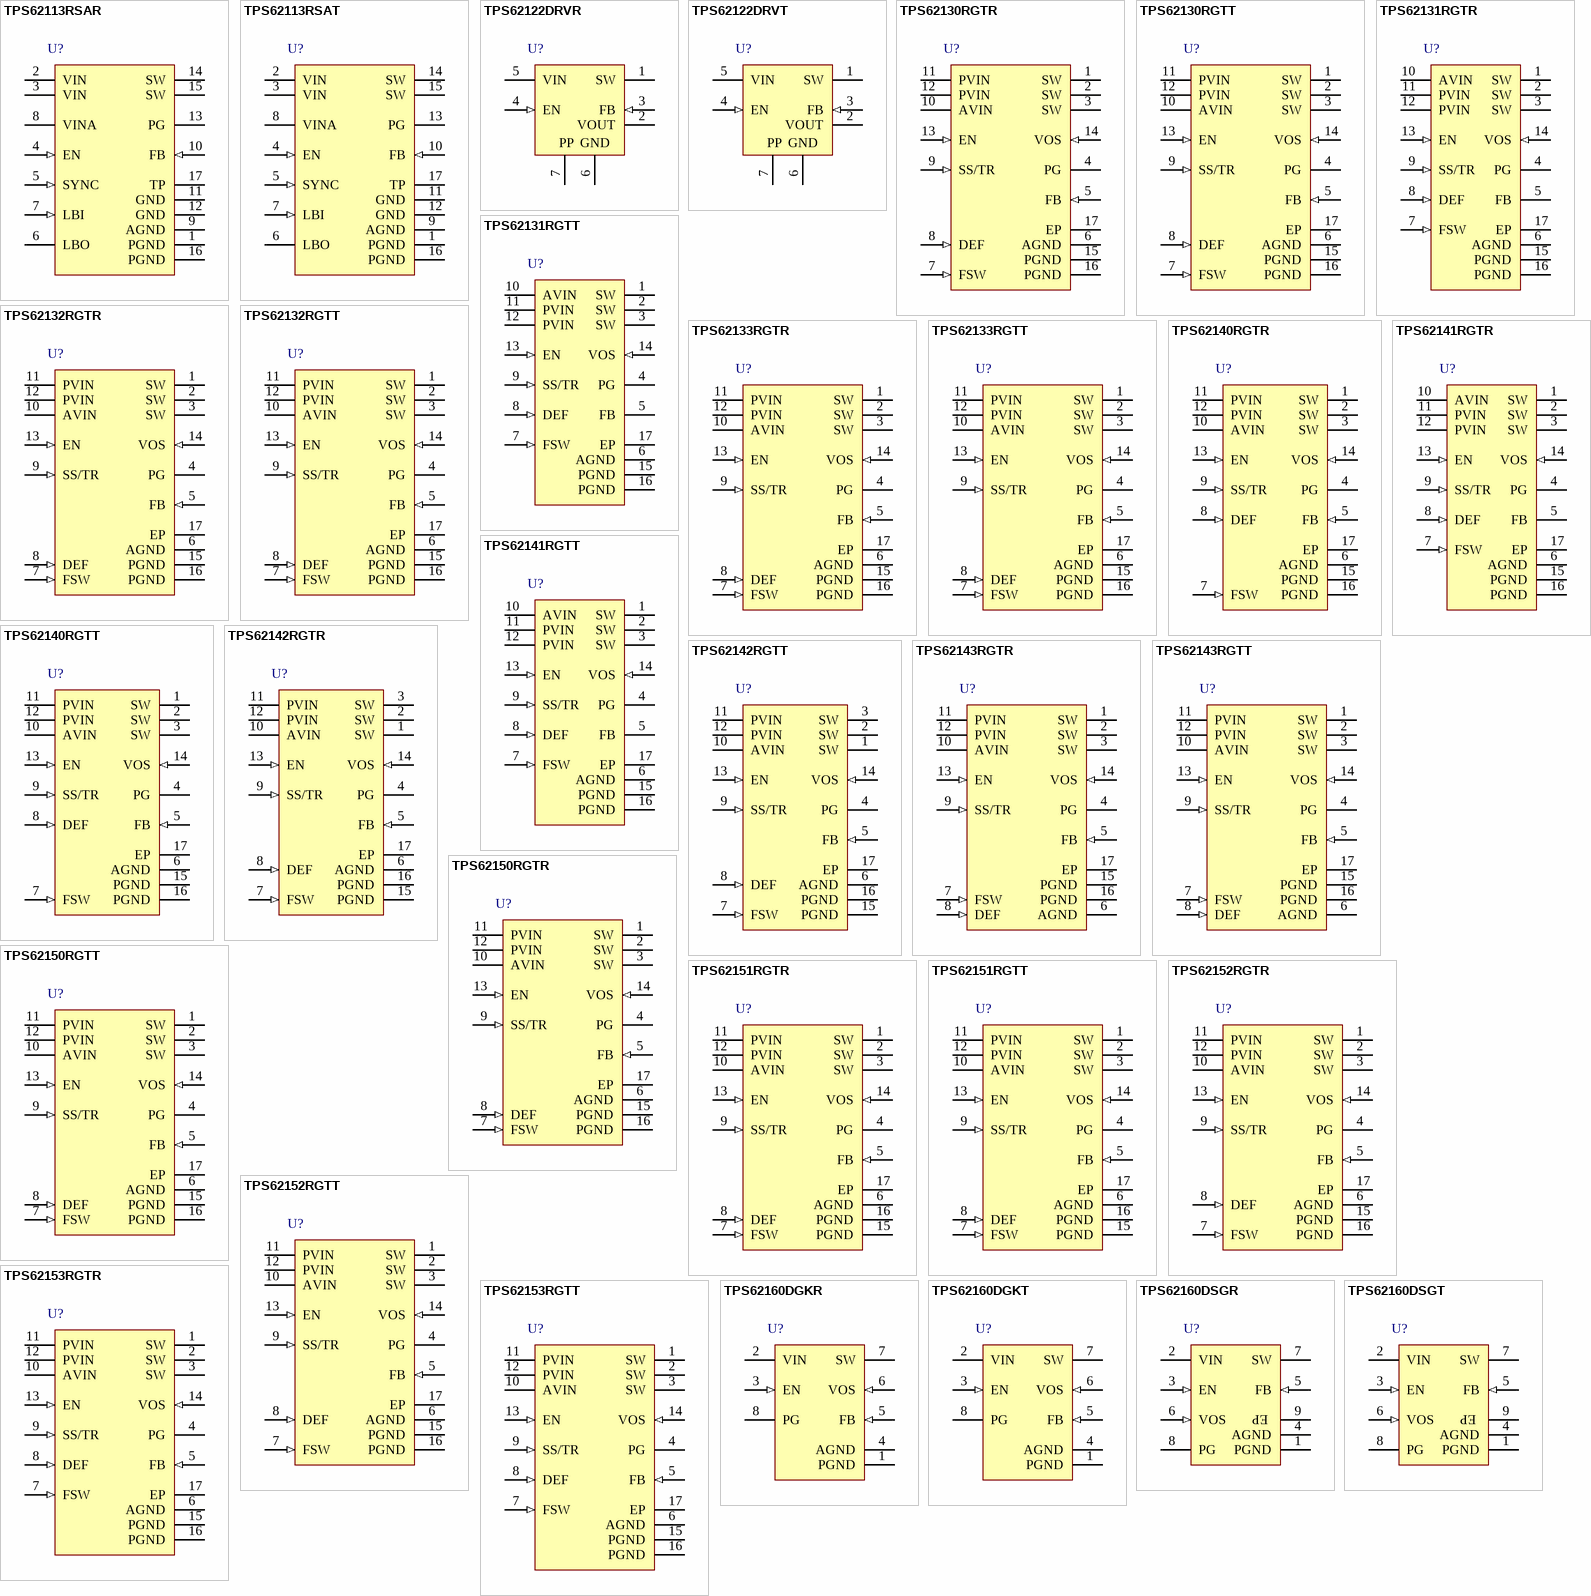
[diagram p9: symbols TPS62113RSAR to TPS62160DSGT]

## TPS62113RSAR
designator U?
Buck Step Down Regulator with 3.1 to 17 V Input and 1.2 to 16 V Output, -40 to 85 degC, 16-Pin QFN (RSA), Green (RoHS & no Sb/Br); PartNumber: TPS62113RSAR; Manufacturer: Texas Instruments; Duty Cycle(Max)(%): 100; Iout(Max)(A): 1.5; Iq(Typ)(mA): 0.02; Rating: Catalog; Regulated Outputs(#): 1; SubFamily: Step-Down Regulator; Switch Current Limit(Typ)(A): 2.4; Synchronous Rectification: TRUE; Vin(Max)(V): 17; Vin(Min)(V): 3.1; Vout(Max)(V): 16; Vout(Min)(V): 1.2; DatasheetVersion: SLVS585A; PackageVersion: revD, Jun-2011; PackageReference: RSA16-2700X2700TP; PackageDescription: 16-Pin Plastic Quad Flatpack No-Lead 0.65 mm Pitch; Supplier 1: Digi-Key; Supplier Part Number 1: 296-24199-2-ND; Supplier 2: Digi-Key; Supplier Part Number 2: 296-24199-1-ND; Supplier 3: Digi-Key; Supplier Part Number 3: 296-24199-6-ND; Supplier 4: Newark; Supplier Part Number 4: 09R6672; Supplier 5: Mouser; Supplier Part Number 5: 595-TPS62113RSAR; Eco-Plan: Green (RoHS & no Sb/Br); Topology: Buck; Mounting Technology: Surface Mount; Code_JEDEC: MO-220; ComponentLink1Description: Datasheet; ComponentLink1URL: http://www.ti.com/general/docs/lit/getliterature.tsp?genericPartNumber=TPS62113&fileType=pdf; ComponentLink2Description: URL Link1; ComponentLink2URL: Samples URL:http://www.ti.com/product/tps62113#samples
footprint RSA16-2700X2700TP (QFN, 16-Leads, Body 4x4mm, Pitch 0.65mm, Thermal Pad 2.7x2.7mm, TI Recommended)
pins: 1 PGND (power) "Power ground. Connect all power grounds to this pin.", 2 VIN (power) "Supply voltage input (power stage)", 3 VIN (power) "Supply voltage input (power stage)", 4 EN (in) "Enable. A logic high enables the converter; logic low forces the device into shutdown mode reducing the supply current to less than 2 uA.", 5 SYNC (in) "Input for synchronization to external clock signal. Synchronizes the converter switching frequency to an external clock signal with CMOS level:SYNC = HIGH: Low-noise mode enabled, fixed frequency PWM operation is forced SYNC (See Datasheet)", 6 LBO (hiz) "Open-drain, low-battery output. This pin is pulled low if LBI is below its threshold.", 7 LBI (in) "Low-battery input", 8 VINA (power) "Supply voltage input (support circuits)", 9 AGND (power) "Analog ground, connect to GND and PGND", 10 FB (in) "Feedback pin for the fixed output voltage option. For the adjustable version, an external resistive divider is connected to this pin. The internal voltage divider is disabled for the adjustable version.", 11 GND (power) "Ground", 12 GND (power) "Ground", 13 PG (oc) "Power good comparator output. This is an open-drain output. A pullup resistor should be connected between PG and VOUT. The output goes active high when the output voltage is greater than 98.4% of the nominal value.", 14 SW (power) "Connect the inductor to this pin. This pin is the switch pin and connected to the drain of the internal power MOSFETS.", 15 SW (power) "Connect the inductor to this pin. This pin is the switch pin and connected to the drain of the internal power MOSFETS.", 16 PGND (power) "Power ground. Connect all power grounds to this pin.", 17 TP (power) "Connect to AGND"

## TPS62113RSAT
designator U?
Buck Step Down Regulator with 3.1 to 17 V Input and 1.2 to 16 V Output, -40 to 85 degC, 16-Pin QFN (RSA), Green (RoHS & no Sb/Br); PartNumber: TPS62113RSAT; Manufacturer: Texas Instruments; Duty Cycle(Max)(%): 100; Iout(Max)(A): 1.5; Iq(Typ)(mA): 0.02; Rating: Catalog; Regulated Outputs(#): 1; SubFamily: Step-Down Regulator; Switch Current Limit(Typ)(A): 2.4; Synchronous Rectification: TRUE; Vin(Max)(V): 17; Vin(Min)(V): 3.1; Vout(Max)(V): 16; Vout(Min)(V): 1.2; DatasheetVersion: SLVS585A; PackageVersion: revD, Jun-2011; PackageReference: RSA16-2700X2700TP; PackageDescription: 16-Pin Plastic Quad Flatpack No-Lead 0.65 mm Pitch; Supplier 1: Digi-Key; Supplier Part Number 1: 296-27025-2-ND; Supplier 2: Digi-Key; Supplier Part Number 2: 296-27025-1-ND; Supplier 3: Digi-Key; Supplier Part Number 3: 296-27025-6-ND; Supplier 4: Farnell; Supplier Part Number 4: 1710824; Supplier 5: Farnell; Supplier Part Number 5: 1710824RL; Supplier 6: Newark; Supplier Part Number 6: 71P5323; Supplier 7: Mouser; Supplier Part Number 7: 595-TPS62113RSAT; Eco-Plan: Green (RoHS & no Sb/Br); Topology: Buck; Mounting Technology: Surface Mount; Code_JEDEC: MO-220; ComponentLink1Description: Datasheet; ComponentLink1URL: http://www.ti.com/general/docs/lit/getliterature.tsp?genericPartNumber=TPS62113&fileType=pdf; ComponentLink2Description: URL Link1; ComponentLink2URL: Samples URL:http://www.ti.com/product/tps54611#samples
footprint RSA16-2700X2700TP (QFN, 16-Leads, Body 4x4mm, Pitch 0.65mm, Thermal Pad 2.7x2.7mm, TI Recommended)
pins: 1 PGND (power) "Power ground. Connect all power grounds to this pin.", 2 VIN (power) "Supply voltage input (power stage)", 3 VIN (power) "Supply voltage input (power stage)", 4 EN (in) "Enable. A logic high enables the converter; logic low forces the device into shutdown mode reducing the supply current to less than 2 uA.", 5 SYNC (in) "Input for synchronization to external clock signal. Synchronizes the converter switching frequency to an external clock signal with CMOS level:SYNC = HIGH: Low-noise mode enabled, fixed frequency PWM operation is forced SYNC (See Datasheet)", 6 LBO (hiz) "Open-drain, low-battery output. This pin is pulled low if LBI is below its threshold.", 7 LBI (in) "Low-battery input", 8 VINA (power) "Supply voltage input (support circuits)", 9 AGND (power) "Analog ground, connect to GND and PGND", 10 FB (in) "Feedback pin for the fixed output voltage option. For the adjustable version, an external resistive divider is connected to this pin. The internal voltage divider is disabled for the adjustable version.", 11 GND (power) "Ground", 12 GND (power) "Ground", 13 PG (oc) "Power good comparator output. This is an open-drain output. A pullup resistor should be connected between PG and VOUT. The output goes active high when the output voltage is greater than 98.4% of the nominal value.", 14 SW (power) "Connect the inductor to this pin. This pin is the switch pin and connected to the drain of the internal power MOSFETS.", 15 SW (power) "Connect the inductor to this pin. This pin is the switch pin and connected to the drain of the internal power MOSFETS.", 16 PGND (power) "Power ground. Connect all power grounds to this pin.", 17 TP (power) "Connect to AGND"

## TPS62122DRVR
designator U?
Buck Step Down Regulator with 2 to 15 V Input and 1.2 to 5.5 V Output, -40 to 85 degC, 6-Pin SON (DRV), Green (RoHS & no Sb/Br); PartNumber: TPS62122DRVR; Manufacturer: Texas Instruments; Duty Cycle(Max)(%): 100; Iout(Max)(A): 0.075; Iq(Typ)(mA): 0.011; Rating: Catalog; Regulated Outputs(#): 1; SubFamily: Step-Down Regulator; Switch Current Limit(Typ)(A): 0.25; Synchronous Rectification: TRUE; Vin(Max)(V): 15; Vin(Min)(V): 2; Vout(Max)(V): 5.5; Vout(Min)(V): 1.2; DatasheetVersion: SLVSAD5; PackageVersion: revE, Oct-2010; PackageReference: DRV6-1600X1000TP; PackageDescription: 6-Pin Plastic Small Outline No-Lead, 2 x 2 x 0.8 mm Body, 0.65 mm Pitch, Exposed Pad; Supplier 1: Digi-Key; Supplier Part Number 1: 296-27695-2-ND; Supplier 2: Digi-Key; Supplier Part Number 2: 296-27695-1-ND; Supplier 3: Digi-Key; Supplier Part Number 3: 296-27695-6-ND; Supplier 4: Newark; Supplier Part Number 4: 84R0674; Supplier 5: Mouser; Supplier Part Number 5: 595-TPS62122DRVR; Eco-Plan: Green (RoHS & no Sb/Br); Topology: Buck; Mounting Technology: Surface Mount; ComponentLink1Description: Datasheet; ComponentLink1URL: http://www.ti.com/general/docs/lit/getliterature.tsp?genericPartNumber=TPS62122&fileType=pdf; ComponentLink2Description: URL Link1; ComponentLink2URL: Samples URL:http://www.ti.com/product/tps62122#samples
footprint DRV6-1600X1000TP (SON, 6-Leads, Body 2x2mm, Pitch 0.65mm, Thermal Pad 1.6x1mm, TI Recommended)
pins: 1 SW (power) "This is the switch pin and is connected to the internal MOSFET switches. Connect the inductor tothis terminal. Do not tie this pin to VIN, VOUT or GND.", 2 VOUT (power) "This pin must be connected to the output capacitor.", 3 FB (in) "This is the feedback pin for the regulator. Connect external resistor divider to this pin", 4 EN (in) "Pulling this pin to high activates the device. Low level shuts it down. This pin must be terminated.", 5 VIN (power) "VIN power supply pin.", 6 GND (power) "GND supply pin.", 7 EP (power) "Exposed Thermal Pad available only in DRV package option. This pad must be connected to GND."
text: PP